# EAGLE library part RT8268 (library Replicape_B3)
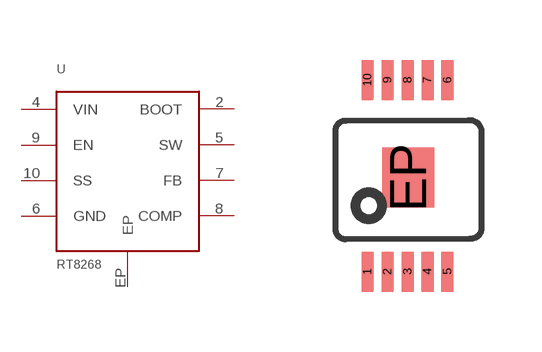
[diagram p0: symbol with the pads of MSOP10; footprint MSOP10]

Designator prefix -

## RT8268  [MSOP10]
2  BOOT  in
4  VIN  sup
5  SW  pwr
6  GND  sup
7  FB  in
8  COMP
9  EN  in
10  SS
EP  EP  sup

## Footprint MSOP10 (pad centres in mm)
smd 0.3 x 1: 1 -1,-2.4; 2 -0.5,-2.4; 3 0.005,-2.4; 4 0.5,-2.4; 5 1,-2.4; 6 1,2.4; 7 0.5,2.4; 8 0.005,2.4; 9 -0.5,2.4; 10 -1,2.4
smd 1.3 x 1.5: EP 0.02,-0.04